# EAGLE library part GMSTBA8 (library con-phoenix-508)
PHOENIX
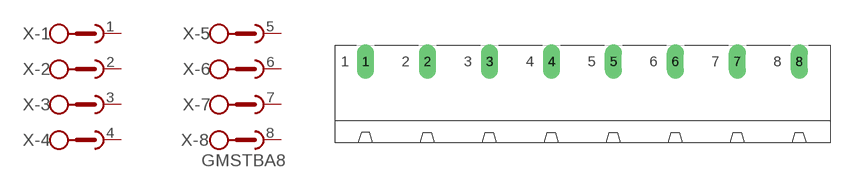
[diagram p2: symbol with the pads of GMSTBA8; footprint GMSTBA8]

Designator prefix X; gates -1=SKB -2=SKB -3=SKB -4=SKB -5=SKB -6=SKB -7=SKB -8=SKBV

## GMSTBA8  [GMSTBA8]
1  -1:1  pas
2  -2:1  pas
3  -3:1  pas
4  -4:1  pas
5  -5:1  pas
6  -6:1  pas
7  -7:1  pas
8  -8:1  pas

## Footprint GMSTBA8 (pad centres in mm)
PHOENIX
drill 1.4 long: 1 -26.67,5.08; 2 -19.05,5.08; 3 -11.43,5.08; 4 -3.81,5.08; 5 3.81,5.08; 6 11.43,5.08; 7 19.05,5.08; 8 26.67,5.08